# Altium schematic symbol library LM74500QDDFRQ1.SchLib: 1 symbol
Pins are listed as number, name and electrical type; pins without a type are passive.

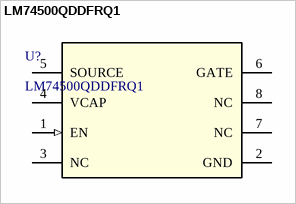
[diagram p0: symbol LM74500QDDFRQ1]

## LM74500QDDFRQ1
designator U?
Reverse polarity protection controller 8-SOT-23-THIN -40 to 125; Manufacturer_Name: Texas Instruments; TYPE: TYPE; RefDes: RefDes; Copyright: Copyright (C) 2026 Ultra Librarian. All rights reserved.; Manufacturer_Part_Number: LM74500QDDFRQ1
footprint DDF0008A-IPC_A
pins: 1 EN (in), 2 GND (power), 3 NC, 4 VCAP, 5 SOURCE, 6 GATE, 7 NC, 8 NC